# EAGLE library part LMP91000 (library BQ25504)
IC TI AFE for Gas Sensing
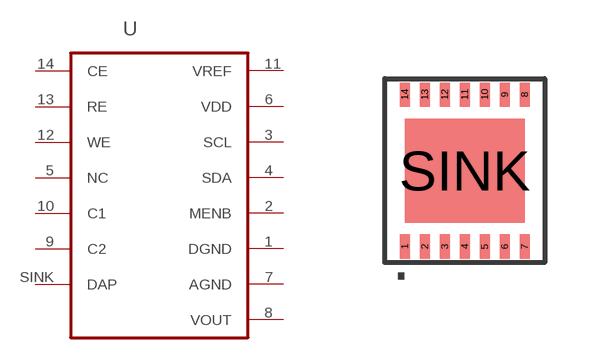
[diagram p24: symbol with the pads of WFDFN-14; footprint WFDFN-14]

Designator prefix -

## LMP91000 (DIGIKEY: LMP91000SDE/NOPBCT-ND)  [WFDFN-14]
1  DGND  pas
2  MENB  pas
3  SCL
4  SDA  pas
5  NC  pas
6  VDD  pwr
7  AGND  pas
8  VOUT  pas
9  C2  pas
10  C1  pas
11  VREF  pwr
12  WE
13  RE
14  CE
SINK  DAP  pas

## Footprint WFDFN-14 (pad centres in mm)
smd 0.25 x 0.6: 1 -1.5,-1.9; 2 -1,-1.9; 3 -0.5,-1.9; 4 0,-1.9; 5 0.5,-1.9; 6 1,-1.9; 7 1.5,-1.9; 8 1.5,1.9; 9 1,1.9; 10 0.5,1.9; 11 0,1.9; 12 -0.5,1.9; 13 -1,1.9; 14 -1.5,1.9
smd 3 x 2.6: SINK 0,0